# Altium schematic symbol library RT9193.SchLib: 15 symbols
Pins are listed as number, name and electrical type; pins without a type are passive.

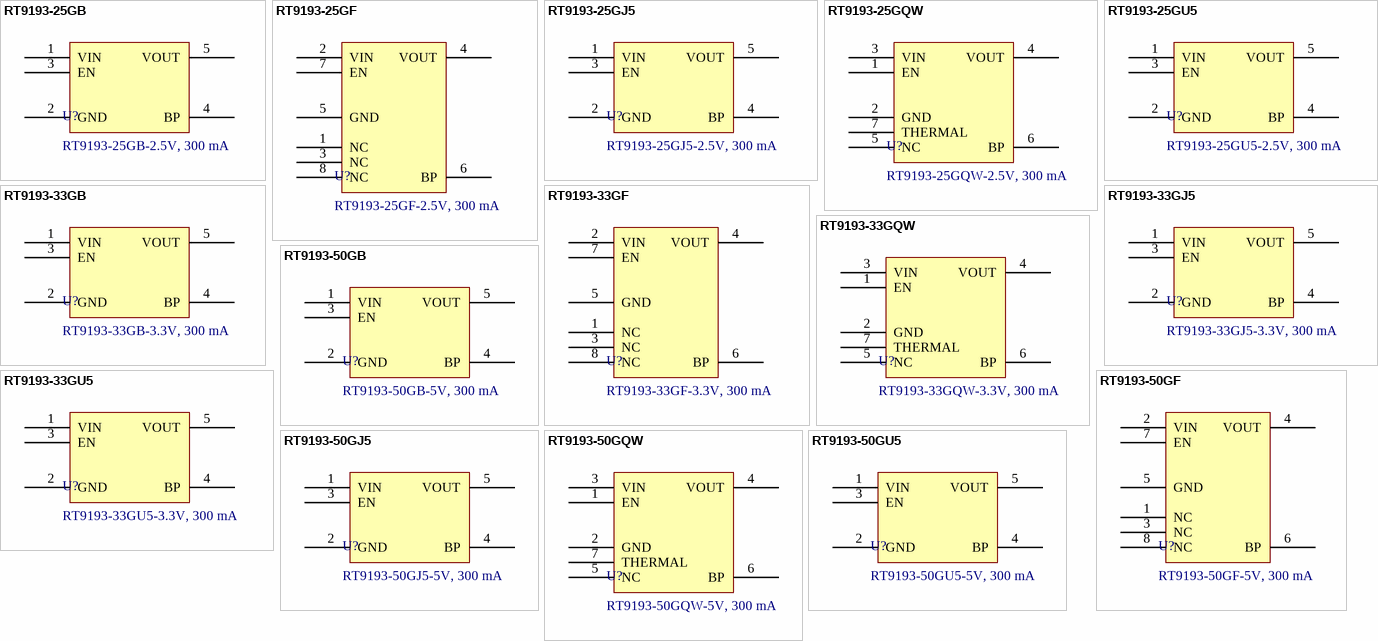
[diagram p0: symbols RT9193-25GB to RT9193-50GU5]

## RT9193-25GB
designator U?, comment RT9193-25GB-2.5V, 300 mA
LDO Voltage Regulators 300mA, Ultra-Low Noise, Ultra-Fast CMOS LDO Regulator, SOT-23-5, 2.5 V; Manufacturer: Richtek; Voltage Output: 2.5V; Rated Current: 90 uA; PSRR: - 70 dB; Voltage Drop: 220 mV; Voltage Input Maximum: 5.5V; Packaging: Tape and Reel; Current Output: 300 mA; Voltage Input Minimum: 2.5V; Product: LDO Voltage Regulators; Supplier 1 URL: https://www.mouser.vn/ProductDetail/Richtek/RT9193-25GB?qs=amGC7iS6iy%252BWegPok0BkoQ%3D%3D; Supplier 2 URL: https://www.digikey.com/en/products/detail/richtek-usa-inc/RT9193-25GB/2470049?s=N4IgTCBcDaIEoBUCcBGJBmAtGArAcQCEQBdAXyA; Supplier 3 URL: N/A; Value: RT9193-25GB-2.5V, 300 mA; Manufacturer Part Number: RT9193-25GB; Mount: SMD/SMT; Operating Temperature Max: + 85 C; Operating Temperature Min: - 40 C; Package / Case: SOT-23-5; Supplier 1: Mouser; Supplier 1 Part Number: 835-RT9193-25GB; Supplier 2: Digi-Key; Supplier 2 Part Number: 1028-1015-6-ND; Supplier 3: thegioiic; Supplier 3 Part Number: N/A; ComponentLink1Description: Datasheet; ComponentLink1URL: https://www.mouser.vn/datasheet/2/1458/DS9193_18-3104722.pdf; LCSC Part #: C55115
footprint RT9193-xxGB (SOT23, 5-Leads, Body 2.90x2.79mm, Pitch 0.95mm, IPC Medium Density)
pins: 1 VIN (power), 2 GND (power), 3 EN (power), 4 BP (power), 5 VOUT (power)

## RT9193-25GF
designator U?, comment RT9193-25GF-2.5V, 300 mA
LDO Voltage Regulators 300mA, Ultra-Low Noise, Ultra-Fast CMOS LDO Regulator, MSOP-8, 2.5V; Manufacturer: Richtek; PSRR: - 70 dB; Rated Current: 90 uA; Voltage Drop: 220 mV; Voltage Input Maximum: 5.5V; Product: LDO Voltage Regulators; Packaging: Tape and Reel; Voltage Output: 2.5V; Current Output: 300 mA; Voltage Input Minimum: 2.5V; Supplier 1 URL: N/A; Supplier 2 URL: https://www.digikey.com/en/products/detail/richtek-usa-inc/RT9193-25GF/2546923?s=N4IgTCBcDaIEoBUCcBGJBmAtGArAcQDEQBdAXyA; Supplier 3 URL: N/A; Value: RT9193-25GF-2.5V, 300 mA; Manufacturer Part Number: RT9193-25GF; Mount: SMD/SMT; Operating Temperature Max: + 85 C; Operating Temperature Min: - 40 C; Package / Case: MSOP-8; Supplier 1: Mouser; Supplier 1 Part Number: N/A; Supplier 2: Digi-Key; Supplier 2 Part Number: RT9193-25GF-ND; Supplier 3: thegioiic; Supplier 3 Part Number: N/A; ComponentLink1Description: Datasheet; ComponentLink1URL: https://www.mouser.vn/datasheet/2/1458/DS9193_18-3104722.pdf; LCSC Part #: N/A
footprint RT9193-xxGF (TSOP, 8-Leads, Body 3.00x3.00mm, Pitch 0.65mm, IPC Medium Density)
pins: 1 NC (power), 2 VIN (power), 3 NC (power), 4 VOUT (power), 5 GND (power), 6 BP (power), 7 EN (power), 8 NC (power)

## RT9193-25GJ5
designator U?, comment RT9193-25GJ5-2.5V, 300 mA
LDO Voltage Regulators 300mA, Ultra-Low Noise, Ultra-Fast CMOS LDO Regulator, TSOT-23-5, 2.5V; Manufacturer: Richtek; Rated Current: 90 uA; PSRR: - 70 dB; Voltage Drop: 220 mV; Voltage Input Maximum: 5.5V; Product: LDO Voltage Regulators; Packaging: Tape and Reel; Voltage Output: 2.5V; Current Output: 300 mA; Voltage Input Minimum: 2.5V; Supplier 1 URL: N/A; Supplier 2 URL: https://www.digikey.com/en/products/detail/richtek-usa-inc/RT9193-25GJ5/2546925?s=N4IgTCBcDaIEoBUCcBGJBmAtGArAcQCkcQBdAXyA; Supplier 3 URL: N/A; Value: RT9193-25GJ5-2.5V, 300 mA; Manufacturer Part Number: RT9193-25GJ5; Mount: SMD/SMT; Operating Temperature Max: + 85 C; Operating Temperature Min: - 40 C; Package / Case: TSOT-23-5; Supplier 1: Mouser; Supplier 1 Part Number: N/A; Supplier 2: Digi-Key; Supplier 2 Part Number: RT9193-25GJ5-ND; Supplier 3: thegioiic; Supplier 3 Part Number: N/A; ComponentLink1Description: Datasheet; ComponentLink1URL: https://www.mouser.vn/datasheet/2/1458/DS9193_18-3104722.pdf; LCSC Part #: N/A
footprint RT9193-xxGJ5 (SOT23, 5-Leads, Body 2.90x2.80mm, Pitch 0.95mm, IPC Medium Density)
pins: 1 VIN (power), 2 GND (power), 3 EN (power), 4 BP (power), 5 VOUT (power)

## RT9193-25GQW
designator U?, comment RT9193-25GQW-2.5V, 300 mA
LDO Voltage Regulators 300mA, Ultra-Low Noise, Ultra-Fast CMOS LDO Regulator, WDFN-6L 2x2 (W-Type), 2.5V; Manufacturer: Richtek; Rated Current: 90 uA; PSRR: - 70 dB; Voltage Drop: 220 mV; Voltage Input Maximum: 5.5V; Product: LDO Voltage Regulators; Packaging: Tape and Reel; Voltage Output: 2.5V; Current Output: 300 mA; Voltage Input Minimum: 2.5V; Supplier 1 URL: N/A; Supplier 2 URL: https://www.digikey.com/en/products/detail/richtek-usa-inc/RT9193-25GQW/2546927?s=N4IgTCBcDaIEoBUCcBGJBmAtGArAcQEUB1EAXQF8g; Supplier 3 URL: N/A; Value: RT9193-25GQW-2.5V, 300 mA; Manufacturer Part Number: RT9193-25GQW; Mount: SMD/SMT; Operating Temperature Max: + 85 C; Operating Temperature Min: - 40 C; Package / Case: WDFN-6L 2x2 (W-Type); Supplier 1: Mouser; Supplier 1 Part Number: N/A; Supplier 2: Digi-Key; Supplier 2 Part Number: RT9193-25GQW-ND; Supplier 3: thegioiic; Supplier 3 Part Number: N/A; ComponentLink1Description: Datasheet; ComponentLink1URL: https://www.mouser.vn/datasheet/2/1458/DS9193_18-3104722.pdf; LCSC Part #: N/A
footprint RT9193-xxGQW (SON, 6-Leads, Body 2.00x2.00mm, Pitch 0.65mm, Thermal Pad 1.23x0.68mm, IPC Medium Density)
pins: 1 EN (power), 2 GND (power), 3 VIN (power), 4 VOUT (power), 5 NC (power), 6 BP (power), 7 THERMAL (power)

## RT9193-25GU5
designator U?, comment RT9193-25GU5-2.5V, 300 mA
LDO Voltage Regulators 300mA, Ultra-Low Noise, Ultra-Fast CMOS LDO Regulator, SC-70-5, 2.5V; Manufacturer: Richtek; Rated Current: 90 uA; PSRR: - 70 dB; Voltage Drop: 220 mV; Voltage Input Maximum: 5.5V; Product: LDO Voltage Regulators; Packaging: Tape and Reel; Voltage Output: 2.5V; Current Output: 300 mA; Voltage Input Minimum: 2.5V; Supplier 1 URL: N/A; Supplier 2 URL: https://www.digikey.com/en/products/detail/richtek-usa-inc/RT9193-25GU5/2546929?s=N4IgTCBcDaIEoBUCcBGJBmAtGArAcQFUcQBdAXyA; Supplier 3 URL: N/A; Value: RT9193-25GU5-2.5V, 300 mA; Manufacturer Part Number: RT9193-25GU5; Mount: SMD/SMT; Operating Temperature Max: + 85 C; Operating Temperature Min: - 40 C; Package / Case: SC-70-5; Supplier 1: Mouser; Supplier 1 Part Number: N/A; Supplier 2: Digi-Key; Supplier 2 Part Number: RT9193-25GU5-ND; Supplier 3: thegioiic; Supplier 3 Part Number: N/A; ComponentLink1Description: Datasheet; ComponentLink1URL: https://www.mouser.vn/datasheet/2/1458/DS9193_18-3104722.pdf; LCSC Part #: N/A
footprint RT9193-xxGU5 (SOT23, 5-Leads, Body 2.03x2.13mm, Pitch 0.65mm, IPC Medium Density)
pins: 1 VIN (power), 2 GND (power), 3 EN (power), 4 BP (power), 5 VOUT (power)

## RT9193-33GB
designator U?, comment RT9193-33GB-3.3V, 300 mA
LDO Voltage Regulators 300mA, Ultra-Low Noise, Ultra-Fast CMOS LDO Regulator, SOT-23-5,  3.3 V; Manufacturer: Richtek; Voltage Output: 3.3V; Rated Current: 90 uA; Voltage Input Minimum: 2.5V; PSRR: - 70 dB; Voltage Drop: 220 mV; Voltage Input Maximum: 5.5V; Packaging: Tape and Reel; Current Output: 300 mA; Product: LDO Voltage Regulators; Supplier 1 URL: https://www.mouser.vn/ProductDetail/Richtek/RT9193-33GB?qs=amGC7iS6iy8ybRcZ9Wn2ww%3D%3D; Supplier 2 URL: https://www.digikey.com/en/products/detail/richtek-usa-inc/RT9193-33GB/2470048?s=N4IgTCBcDaIEoBUCcBGJBmAtO9BxAQiALoC%2BQA; Supplier 3 URL: https://www.thegioiic.com/rt9193-33gb-ic-on-ap-3-3v-300ma; Value: RT9193-33GB-3.3V, 300 mA; Manufacturer Part Number: RT9193-33GB; Mount: SMD/SMT; Operating Temperature Max: + 85 C; Operating Temperature Min: - 40 C; Package / Case: SOT-23-5; Supplier 1: Mouser; Supplier 1 Part Number: 835-RT9193-33GB; Supplier 2: Digi-Key; Supplier 2 Part Number: 1028-1014-6-ND; Supplier 3: thegioiic; Supplier 3 Part Number: N/A; ComponentLink1Description: Datasheet; ComponentLink1URL: https://www.mouser.vn/datasheet/2/1458/DS9193_18-3104722.pdf; LCSC Part #: C15651
footprint RT9193-xxGB (SOT23, 5-Leads, Body 2.90x2.79mm, Pitch 0.95mm, IPC Medium Density)
pins: 1 VIN (power), 2 GND (power), 3 EN (power), 4 BP (power), 5 VOUT (power)

## RT9193-33GF
designator U?, comment RT9193-33GF-3.3V, 300 mA
LDO Voltage Regulators 300mA, Ultra-Low Noise, Ultra-Fast CMOS LDO Regulator, MSOP-8, 3.3V; Manufacturer: Richtek; Rated Current: 90 uA; Voltage Input Minimum: 2.5V; PSRR: - 70 dB; Voltage Drop: 220 mV; Voltage Input Maximum: 5.5V; Product: LDO Voltage Regulators; Packaging: Tape and Reel; Voltage Output: 3.3V; Current Output: 300 mA; Supplier 1 URL: N/A; Supplier 2 URL: https://www.digikey.com/en/products/detail/richtek-usa-inc/RT9193-33GF/2546969?s=N4IgTCBcDaIEoBUCcBGJBmAtO9BxAYiALoC%2BQA; Supplier 3 URL: N/A; Value: RT9193-33GF-3.3V, 300 mA; Manufacturer Part Number: RT9193-33GF; Mount: SMD/SMT; Operating Temperature Max: + 85 C; Operating Temperature Min: - 40 C; Package / Case: MSOP-8; Supplier 1: Mouser; Supplier 1 Part Number: N/A; Supplier 2: Digi-Key; Supplier 2 Part Number: 1028-RT9193-33GFTR-ND; Supplier 3: thegioiic; Supplier 3 Part Number: N/A; ComponentLink1Description: Datasheet; ComponentLink1URL: https://www.mouser.vn/datasheet/2/1458/DS9193_18-3104722.pdf; LCSC Part #: N/A
footprint RT9193-xxGF (TSOP, 8-Leads, Body 3.00x3.00mm, Pitch 0.65mm, IPC Medium Density)
pins: 1 NC (power), 2 VIN (power), 3 NC (power), 4 VOUT (power), 5 GND (power), 6 BP (power), 7 EN (power), 8 NC (power)

## RT9193-33GJ5
designator U?, comment RT9193-33GJ5-3.3V, 300 mA
LDO Voltage Regulators 300mA, Ultra-Low Noise, Ultra-Fast CMOS LDO Regulator, TSOT-23-5, 3.3V; Manufacturer: Richtek; Rated Current: 90 uA; Voltage Input Minimum: 2.5V; PSRR: - 70 dB; Voltage Drop: 220 mV; Voltage Input Maximum: 5.5V; Product: LDO Voltage Regulators; Packaging: Tape and Reel; Voltage Output: 3.3V; Current Output: 300 mA; Supplier 1 URL: N/A; Supplier 2 URL: https://www.digikey.com/en/products/detail/richtek-usa-inc/RT9193-33GJ5/2546971?s=N4IgTCBcDaIEoBUCcBGJBmAtO9BxAUgKwgC6AvkA; Supplier 3 URL: N/A; Value: RT9193-33GJ5-3.3V, 300 mA; Manufacturer Part Number: RT9193-33GJ5; Mount: SMD/SMT; Operating Temperature Max: + 85 C; Operating Temperature Min: - 40 C; Package / Case: TSOT-23-5; Supplier 1: Mouser; Supplier 1 Part Number: N/A; Supplier 2: Digi-Key; Supplier 2 Part Number: RT9193-33GJ5-ND; Supplier 3: thegioiic; Supplier 3 Part Number: N/A; ComponentLink1Description: Datasheet; ComponentLink1URL: https://www.mouser.vn/datasheet/2/1458/DS9193_18-3104722.pdf; LCSC Part #: N/A
footprint RT9193-xxGJ5 (SOT23, 5-Leads, Body 2.90x2.80mm, Pitch 0.95mm, IPC Medium Density)
pins: 1 VIN (power), 2 GND (power), 3 EN (power), 4 BP (power), 5 VOUT (power)

## RT9193-33GQW
designator U?, comment RT9193-33GQW-3.3V, 300 mA
LDO Voltage Regulators 300mA, Ultra-Low Noise, Ultra-Fast CMOS LDO Regulator, WDFN-6L 2x2 (W-Type), 3.3V; Manufacturer: Richtek; Rated Current: 90 uA; Voltage Input Minimum: 2.5V; PSRR: - 70 dB; Voltage Drop: 220 mV; Voltage Input Maximum: 5.5V; Product: LDO Voltage Regulators; Packaging: Tape and Reel; Voltage Output: 3.3V; Current Output: 300 mA; Supplier 1 URL: N/A; Supplier 2 URL: https://www.digikey.com/en/products/detail/richtek-usa-inc/RT9193-33GQW/2546973?s=N4IgTCBcDaIEoBUCcBGJBmAtO9BxAigOogC6AvkA; Supplier 3 URL: N/A; Value: RT9193-33GQW-3.3V, 300 mA; Manufacturer Part Number: RT9193-33GQW; Mount: SMD/SMT; Operating Temperature Max: + 85 C; Operating Temperature Min: - 40 C; Package / Case: WDFN-6L 2x2 (W-Type); Supplier 1: Mouser; Supplier 1 Part Number: N/A; Supplier 2: Digi-Key; Supplier 2 Part Number: RT9193-33GQW-ND; Supplier 3: thegioiic; Supplier 3 Part Number: N/A; ComponentLink1Description: Datasheet; ComponentLink1URL: https://www.mouser.vn/datasheet/2/1458/DS9193_18-3104722.pdf; LCSC Part #: N/A
footprint RT9193-xxGQW (SON, 6-Leads, Body 2.00x2.00mm, Pitch 0.65mm, Thermal Pad 1.23x0.68mm, IPC Medium Density)
pins: 1 EN (power), 2 GND (power), 3 VIN (power), 4 VOUT (power), 5 NC (power), 6 BP (power), 7 THERMAL (power)

## RT9193-33GU5
designator U?, comment RT9193-33GU5-3.3V, 300 mA
LDO Voltage Regulators 300mA, Ultra-Low Noise, Ultra-Fast CMOS LDO Regulator, SC-70-5, 3.3V; Manufacturer: Richtek; Rated Current: 90 uA; Voltage Input Minimum: 2.5V; PSRR: - 70 dB; Voltage Drop: 220 mV; Voltage Input Maximum: 5.5V; Product: LDO Voltage Regulators; Packaging: Tape and Reel; Voltage Output: 3.3V; Current Output: 300 mA; Supplier 1 URL: N/A; Supplier 2 URL: https://www.digikey.com/en/products/detail/richtek-usa-inc/RT9193-33GU5/2546976?s=N4IgTCBcDaIEoBUCcBGJBmAtO9BxAqgKwgC6AvkA; Supplier 3 URL: N/A; Value: RT9193-33GU5-3.3V, 300 mA; Manufacturer Part Number: RT9193-33GU5; Mount: SMD/SMT; Operating Temperature Max: + 85 C; Operating Temperature Min: - 40 C; Package / Case: SC-70-5; Supplier 1: Mouser; Supplier 1 Part Number: N/A; Supplier 2: Digi-Key; Supplier 2 Part Number: RT9193-33GU5-ND; Supplier 3: thegioiic; Supplier 3 Part Number: N/A; ComponentLink1Description: Datasheet; ComponentLink1URL: https://www.mouser.vn/datasheet/2/1458/DS9193_18-3104722.pdf; LCSC Part #: N/A
footprint RT9193-xxGU5 (SOT23, 5-Leads, Body 2.03x2.13mm, Pitch 0.65mm, IPC Medium Density)
pins: 1 VIN (power), 2 GND (power), 3 EN (power), 4 BP (power), 5 VOUT (power)

## RT9193-50GB
designator U?, comment RT9193-50GB-5V, 300 mA
LDO Voltage Regulators 300mA, Ultra-Low Noise, Ultra-Fast CMOS LDO Regulator, SOT-23-5, 5V; Manufacturer: Richtek; Rated Current: 90 uA; Voltage Input Minimum: 2.5V; PSRR: - 70 dB; Voltage Drop: 220 mV; Voltage Input Maximum: 5.5V; Product: LDO Voltage Regulators; Packaging: Tape and Reel; Voltage Output: 5V; Current Output: 300 mA; Supplier 1 URL: N/A; Supplier 2 URL: N/A; Supplier 3 URL: N/A; Value: RT9193-50GB-5V, 300 mA; Manufacturer Part Number: RT9193-50GB; Mount: SMD/SMT; Operating Temperature Max: + 85 C; Operating Temperature Min: - 40 C; Package / Case: SOT-23-5; Supplier 1: Mouser; Supplier 1 Part Number: N/A; Supplier 2: Digi-Key; Supplier 2 Part Number: N/A; Supplier 3: thegioiic; Supplier 3 Part Number: N/A; ComponentLink1Description: Datasheet; ComponentLink1URL: https://www.mouser.vn/datasheet/2/1458/DS9193_18-3104722.pdf; LCSC Part #: N/A
footprint RT9193-xxGB (SOT23, 5-Leads, Body 2.90x2.79mm, Pitch 0.95mm, IPC Medium Density)
pins: 1 VIN (power), 2 GND (power), 3 EN (power), 4 BP (power), 5 VOUT (power)

## RT9193-50GF
designator U?, comment RT9193-50GF-5V, 300 mA
LDO Voltage Regulators 300mA, Ultra-Low Noise, Ultra-Fast CMOS LDO Regulator, MSOP-8, 5V; Manufacturer: Richtek; Rated Current: 90 uA; Voltage Input Minimum: 2.5V; PSRR: - 70 dB; Voltage Drop: 220 mV; Voltage Input Maximum: 5.5V; Product: LDO Voltage Regulators; Packaging: Tape and Reel; Voltage Output: 5V; Current Output: 300 mA; Supplier 1 URL: N/A; Supplier 2 URL: N/A; Supplier 3 URL: N/A; Value: RT9193-50GF-5V, 300 mA; Manufacturer Part Number: RT9193-50GF; Mount: SMD/SMT; Operating Temperature Max: + 85 C; Operating Temperature Min: - 40 C; Package / Case: MSOP-8; Supplier 1: Mouser; Supplier 1 Part Number: N/A; Supplier 2: Digi-Key; Supplier 2 Part Number: N/A; Supplier 3: thegioiic; Supplier 3 Part Number: N/A; ComponentLink1Description: Datasheet; ComponentLink1URL: https://www.mouser.vn/datasheet/2/1458/DS9193_18-3104722.pdf; LCSC Part #: N/A
footprint RT9193-xxGF (TSOP, 8-Leads, Body 3.00x3.00mm, Pitch 0.65mm, IPC Medium Density)
pins: 1 NC (power), 2 VIN (power), 3 NC (power), 4 VOUT (power), 5 GND (power), 6 BP (power), 7 EN (power), 8 NC (power)

## RT9193-50GJ5
designator U?, comment RT9193-50GJ5-5V, 300 mA
LDO Voltage Regulators 300mA, Ultra-Low Noise, Ultra-Fast CMOS LDO Regulator, TSOT-23-5, 5V; Manufacturer: Richtek; Rated Current: 90 uA; Voltage Input Minimum: 2.5V; PSRR: - 70 dB; Voltage Drop: 220 mV; Voltage Input Maximum: 5.5V; Product: LDO Voltage Regulators; Packaging: Tape and Reel; Voltage Output: 5V; Current Output: 300 mA; Supplier 1 URL: N/A; Supplier 2 URL: N/A; Supplier 3 URL: N/A; Value: RT9193-50GJ5-5V, 300 mA; Manufacturer Part Number: RT9193-50GJ5; Mount: SMD/SMT; Operating Temperature Max: + 85 C; Operating Temperature Min: - 40 C; Package / Case: TSOT-23-5; Supplier 1: Mouser; Supplier 1 Part Number: N/A; Supplier 2: Digi-Key; Supplier 2 Part Number: N/A; Supplier 3: thegioiic; Supplier 3 Part Number: N/A; ComponentLink1Description: Datasheet; ComponentLink1URL: https://www.mouser.vn/datasheet/2/1458/DS9193_18-3104722.pdf; LCSC Part #: N/A
footprint RT9193-xxGJ5 (SOT23, 5-Leads, Body 2.90x2.80mm, Pitch 0.95mm, IPC Medium Density)
pins: 1 VIN (power), 2 GND (power), 3 EN (power), 4 BP (power), 5 VOUT (power)

## RT9193-50GQW
designator U?, comment RT9193-50GQW-5V, 300 mA
LDO Voltage Regulators 300mA, Ultra-Low Noise, Ultra-Fast CMOS LDO Regulator, WDFN-6L 2x2 (W-Type), 5V; Manufacturer: Richtek; Rated Current: 90 uA; Voltage Input Minimum: 2.5V; PSRR: - 70 dB; Voltage Drop: 220 mV; Voltage Input Maximum: 5.5V; Product: LDO Voltage Regulators; Packaging: Tape and Reel; Voltage Output: 5V; Current Output: 300 mA; Supplier 1 URL: N/A; Supplier 2 URL: N/A; Supplier 3 URL: N/A; Value: RT9193-50GQW-5V, 300 mA; Manufacturer Part Number: RT9193-50GQW; Mount: SMD/SMT; Operating Temperature Max: + 85 C; Operating Temperature Min: - 40 C; Package / Case: WDFN-6L 2x2 (W-Type); Supplier 1: Mouser; Supplier 1 Part Number: N/A; Supplier 2: Digi-Key; Supplier 2 Part Number: N/A; Supplier 3: thegioiic; Supplier 3 Part Number: N/A; ComponentLink1Description: Datasheet; ComponentLink1URL: https://www.mouser.vn/datasheet/2/1458/DS9193_18-3104722.pdf; LCSC Part #: N/A
footprint RT9193-xxGQW (SON, 6-Leads, Body 2.00x2.00mm, Pitch 0.65mm, Thermal Pad 1.23x0.68mm, IPC Medium Density)
pins: 1 EN (power), 2 GND (power), 3 VIN (power), 4 VOUT (power), 5 NC (power), 6 BP (power), 7 THERMAL (power)

## RT9193-50GU5
designator U?, comment RT9193-50GU5-5V, 300 mA
LDO Voltage Regulators 300mA, Ultra-Low Noise, Ultra-Fast CMOS LDO Regulator, SC-70-5, 5V; Manufacturer: Richtek; Rated Current: 90 uA; Voltage Input Minimum: 2.5V; PSRR: - 70 dB; Voltage Drop: 220 mV; Voltage Input Maximum: 5.5V; Product: LDO Voltage Regulators; Packaging: Tape and Reel; Voltage Output: 5V; Current Output: 300 mA; Supplier 1 URL: N/A; Supplier 2 URL: N/A; Supplier 3 URL: N/A; Value: RT9193-50GU5-5V, 300 mA; Manufacturer Part Number: RT9193-50GU5; Mount: SMD/SMT; Operating Temperature Max: + 85 C; Operating Temperature Min: - 40 C; Package / Case: SC-70-5; Supplier 1: Mouser; Supplier 1 Part Number: N/A; Supplier 2: Digi-Key; Supplier 2 Part Number: N/A; Supplier 3: thegioiic; Supplier 3 Part Number: N/A; ComponentLink1Description: Datasheet; ComponentLink1URL: https://www.mouser.vn/datasheet/2/1458/DS9193_18-3104722.pdf; LCSC Part #: N/A
footprint RT9193-xxGU5 (SOT23, 5-Leads, Body 2.03x2.13mm, Pitch 0.65mm, IPC Medium Density)
pins: 1 VIN (power), 2 GND (power), 3 EN (power), 4 BP (power), 5 VOUT (power)